# Altium footprint library 703W-00_52.PcbLib: 1 footprints
Each footprint in its own frame and in the unit in brackets; x right, y up, seen from the top. Pads: shape width x height; smd on the part's side, far side on the other; paste and mask are expansions set on the pad; w line width, h text height; cw(c..) or ccw(c..) is an arc to the next point about the centre after c.
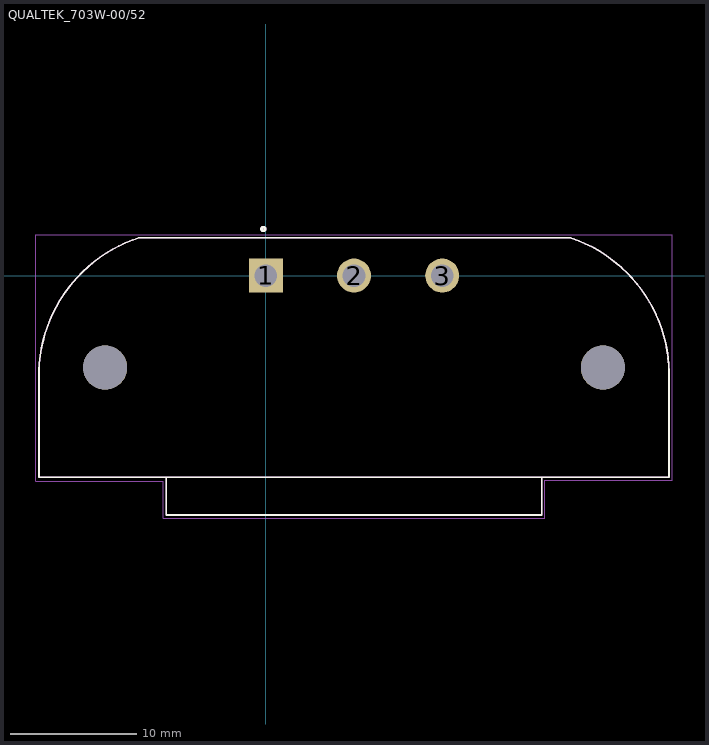
[diagram p0: the footprint, top view; thin cyan lines are the x and y axes]

## QUALTEK_703W-00/52 [mm]
pads (5):
  rect 2.7x2.7 hole 1.8: 1(0,0)
  round 2.7 hole 1.8: 2(7,0) 3(14,0)
  round 3.5 hole 3.5 unplated: ""(-12.75,-7.3) ""(26.75,-7.3)
Top Overlay:
  circle w0.2: c-0.2,3.7 r0.15
  lines w0.127: -18,-7.6 -18,-16 -7.9,-16 ; -17.998,-7.539 cw(c-6.481,-7.941) -10.042,3.019 ; -10.1,3 -2.2,3 16.2,3 24.2,3 ; 24.266,2.978 cw(c20.531,-7.87) 32.001,-7.67 ; 32,-7.6 32,-16 21.9,-16 ; -7.9,-16 21.9,-16 ; -7.9,-16 -7.9,-19 21.9,-19 21.9,-16
Mechanical 13:
  circle w0.2: c-0.2,3.7 r0.15
  lines w0.127: -18,-7.6 -18,-16 -7.9,-16 ; -17.998,-7.539 cw(c-6.481,-7.941) -10.042,3.019 ; -10.1,3 -2.2,3 16.2,3 24.2,3 ; 24.266,2.978 cw(c20.531,-7.87) 32.001,-7.67 ; 32,-7.6 32,-16 21.9,-16 ; -7.9,-16 21.9,-16 ; -7.9,-16 -7.9,-19 21.9,-19 21.9,-16
Mechanical 15:
  lines w0.05: -18.25,-16.3 -8.15,-16.3 -8.15,-19.25 22.15,-19.25 22.15,-16.25 32.25,-16.25 32.25,3.25 -18.25,3.25 -18.25,-16.3
3D body "step_temp.STEP": height 11.5, standoff -19.3, extent -25.05,0 25.05,27.785